# Altium footprint library CAP-SMD-1210.PcbLib: 1 footprints
Each footprint in its own frame and in the unit in brackets; x right, y up, seen from the top. Pads: shape width x height; smd on the part's side, far side on the other; paste and mask are expansions set on the pad; w line width, h text height; cw(c..) or ccw(c..) is an arc to the next point about the centre after c.
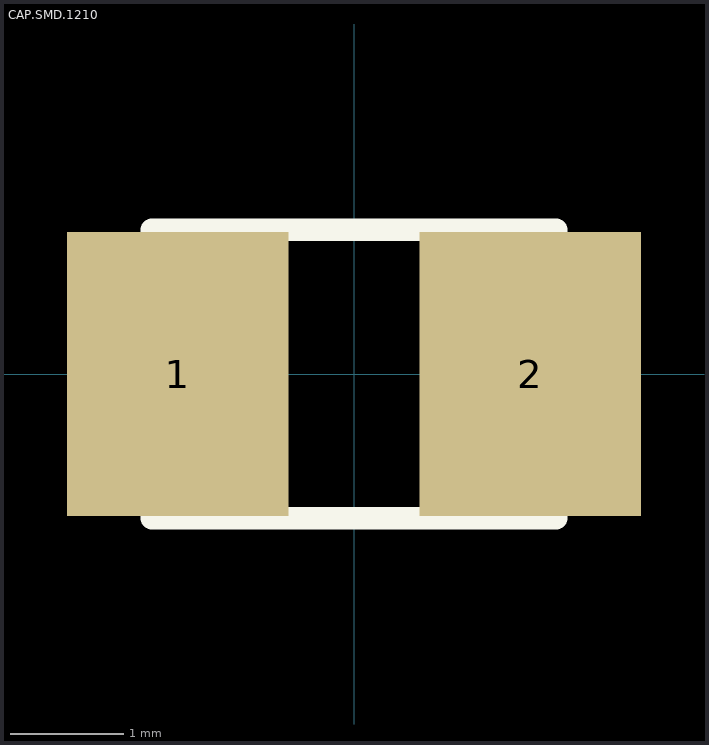
[diagram p0: the footprint, top view; thin cyan lines are the x and y axes]

## CAP.SMD.1210 [mm] "10%. B=3528 TAN.SMD KEMET"
pads (2):
  rect 1.95x2.5 smd: 1(-1.55,0) 2(1.55,0)
Top Overlay:
  lines w0.2: -1.778,-1.27 -1.778,1.27 1.778,1.27 1.778,-1.27 -1.778,-1.27
  lines w0.254: -0.889,-1.016 -0.889,1.016
3D body "CAP-SMD-3528.stp": height 1.94, standoff 0.01, extent -1.73,-1.4 1.73,1.4